# Altium integrated library ALTIUM-WE-TPC-rev17a.IntLib: 258 symbols (part 1 of 3)
Pins are listed as number, name and electrical type; pins without a type are passive.

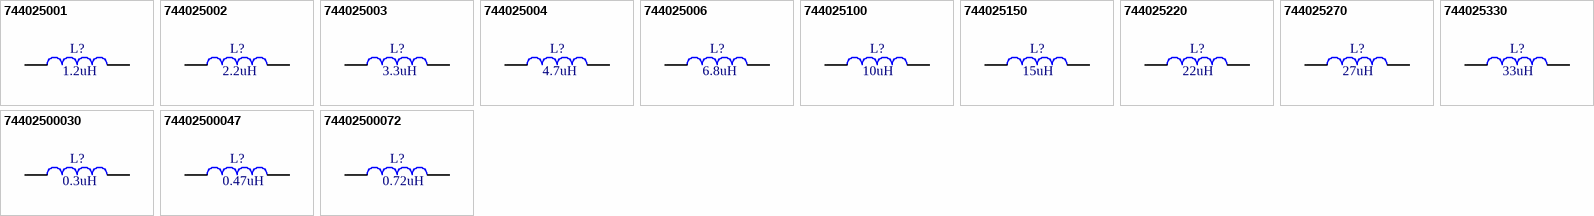
[diagram p0: symbols 744025001 to 74402500072]

## 744025001
designator L?  value 1.2uH
WE-TPC SMD Shielded Tiny Power Inductor, size 2828, 2.6A, 36mΩ, 1.2uH; Part Number: 744025001; ComponentLink1Description: Manufacturer; ComponentLink1URL: http://www.we-online.de; ComponentLink2Description: Datasheet; ComponentLink2URL: http://katalog.we-online.de/pbs/datasheet/744025001.pdf; Published Date: July 2017; Publisher: Wurth Elektronik; Rated Current: 2.6A; Size: 2828; DC Resistance: 36mΩ
footprint WE-TPC_2828
pins: 1, 2

## 744025002
designator L?  value 2.2uH
WE-TPC SMD Shielded Tiny Power Inductor, size 2828, 1.8A, 57mΩ, 2.2uH; Part Number: 744025002; ComponentLink1Description: Manufacturer; ComponentLink1URL: http://www.we-online.de; ComponentLink2Description: Datasheet; ComponentLink2URL: http://katalog.we-online.de/pbs/datasheet/744025002.pdf; Published Date: July 2017; Publisher: Wurth Elektronik; Rated Current: 1.8A; Size: 2828; DC Resistance: 57mΩ
footprint WE-TPC_2828
pins: 1, 2

## 744025003
designator L?  value 3.3uH
WE-TPC SMD Shielded Tiny Power Inductor, size 2828, 1.5A, 85mΩ, 3.3uH; Part Number: 744025003; ComponentLink1Description: Manufacturer; ComponentLink1URL: http://www.we-online.de; ComponentLink2Description: Datasheet; ComponentLink2URL: http://katalog.we-online.de/pbs/datasheet/744025003.pdf; Published Date: July 2017; Publisher: Wurth Elektronik; Rated Current: 1.5A; Size: 2828; DC Resistance: 85mΩ
footprint WE-TPC_2828
pins: 1, 2

## 744025004
designator L?  value 4.7uH
WE-TPC SMD Shielded Tiny Power Inductor, size 2828, 1.35A, 100mΩ, 4.7uH; Part Number: 744025004; ComponentLink1Description: Manufacturer; ComponentLink1URL: http://www.we-online.de; ComponentLink2Description: Datasheet; ComponentLink2URL: http://katalog.we-online.de/pbs/datasheet/744025004.pdf; Published Date: July 2017; Publisher: Wurth Elektronik; Rated Current: 1.35A; Size: 2828; DC Resistance: 100mΩ
footprint WE-TPC_2828
pins: 1, 2

## 744025006
designator L?  value 6.8uH
WE-TPC SMD Shielded Tiny Power Inductor, size 2828, 1.1A, 142mΩ, 6.8uH; Part Number: 744025006; ComponentLink1Description: Manufacturer; ComponentLink1URL: http://www.we-online.de; ComponentLink2Description: Datasheet; ComponentLink2URL: http://katalog.we-online.de/pbs/datasheet/744025006.pdf; Published Date: July 2017; Publisher: Wurth Elektronik; Rated Current: 1.1A; Size: 2828; DC Resistance: 142mΩ
footprint WE-TPC_2828
pins: 1, 2

## 744025100
designator L?  value 10uH
WE-TPC SMD Shielded Tiny Power Inductor, size 2828, 1A, 170mΩ, 10uH; Part Number: 744025100; ComponentLink1Description: Manufacturer; ComponentLink1URL: http://www.we-online.de; ComponentLink2Description: Datasheet; ComponentLink2URL: http://katalog.we-online.de/pbs/datasheet/744025100.pdf; Published Date: July 2017; Publisher: Wurth Elektronik; Rated Current: 1A; Size: 2828; DC Resistance: 170mΩ
footprint WE-TPC_2828
pins: 1, 2

## 744025150
designator L?  value 15uH
WE-TPC SMD Shielded Tiny Power Inductor, size 2828, 0.72A, 356mΩ, 15uH; Part Number: 744025150; ComponentLink1Description: Manufacturer; ComponentLink1URL: http://www.we-online.de; ComponentLink2Description: Datasheet; ComponentLink2URL: http://katalog.we-online.de/pbs/datasheet/744025150.pdf; Published Date: July 2017; Publisher: Wurth Elektronik; Rated Current: 0.72A; Size: 2828; DC Resistance: 356mΩ
footprint WE-TPC_2828
pins: 1, 2

## 744025220
designator L?  value 22uH
WE-TPC SMD Shielded Tiny Power Inductor, size 2828, 0.5A, 525mΩ, 22uH; Part Number: 744025220; ComponentLink1Description: Manufacturer; ComponentLink1URL: http://www.we-online.de; ComponentLink2Description: Datasheet; ComponentLink2URL: http://katalog.we-online.de/pbs/datasheet/744025220.pdf; Published Date: July 2017; Publisher: Wurth Elektronik; Rated Current: 0.5A; Size: 2828; DC Resistance: 525mΩ
footprint WE-TPC_2828
pins: 1, 2

## 744025270
designator L?  value 27uH
WE-TPC SMD Shielded Tiny Power Inductor, size 2828, 0.45A, 745mΩ, 27uH; Part Number: 744025270; ComponentLink1Description: Manufacturer; ComponentLink1URL: http://www.we-online.de; ComponentLink2Description: Datasheet; ComponentLink2URL: http://katalog.we-online.de/pbs/datasheet/744025270.pdf; Published Date: July 2017; Publisher: Wurth Elektronik; Rated Current: 0.45A; Size: 2828; DC Resistance: 745mΩ
footprint WE-TPC_2828
pins: 1, 2

## 744025330
designator L?  value 33uH
WE-TPC SMD Shielded Tiny Power Inductor, size 2828, 0.4A, 840mΩ, 33uH; Part Number: 744025330; ComponentLink1Description: Manufacturer; ComponentLink1URL: http://www.we-online.de; ComponentLink2Description: Datasheet; ComponentLink2URL: http://katalog.we-online.de/pbs/datasheet/744025330.pdf; Published Date: July 2017; Publisher: Wurth Elektronik; Rated Current: 0.4A; Size: 2828; DC Resistance: 840mΩ
footprint WE-TPC_2828
pins: 1, 2

## 74402500030
designator L?  value 0.3uH
WE-TPC SMD Shielded Tiny Power Inductor, size 2828, 3.9A, 15mΩ, 0.3uH; Part Number: 74402500030; ComponentLink1Description: Manufacturer; ComponentLink1URL: http://www.we-online.de; ComponentLink2Description: Datasheet; ComponentLink2URL: http://katalog.we-online.de/pbs/datasheet/74402500030.pdf; Published Date: July 2017; Publisher: Wurth Elektronik; Rated Current: 3.9A; Size: 2828; DC Resistance: 15mΩ
footprint WE-TPC_2828
pins: 1, 2

## 74402500047
designator L?  value 0.47uH
WE-TPC SMD Shielded Tiny Power Inductor, size 2828, 3.3A, 19mΩ, 0.47uH; Part Number: 74402500047; ComponentLink1Description: Manufacturer; ComponentLink1URL: http://www.we-online.de; ComponentLink2Description: Datasheet; ComponentLink2URL: http://katalog.we-online.de/pbs/datasheet/74402500047.pdf; Published Date: July 2017; Publisher: Wurth Elektronik; Rated Current: 3.3A; Size: 2828; DC Resistance: 19mΩ
footprint WE-TPC_2828
pins: 1, 2

## 74402500072
designator L?  value 0.72uH
WE-TPC SMD Shielded Tiny Power Inductor, size 2828, 3A, 23.5mΩ, 0.72uH; Part Number: 74402500072; ComponentLink1Description: Manufacturer; ComponentLink1URL: http://www.we-online.de; ComponentLink2Description: Datasheet; ComponentLink2URL: http://katalog.we-online.de/pbs/datasheet/74402500072.pdf; Published Date: July 2017; Publisher: Wurth Elektronik; Rated Current: 3A; Size: 2828; DC Resistance: 23.5mΩ
footprint WE-TPC_2828
pins: 1, 2


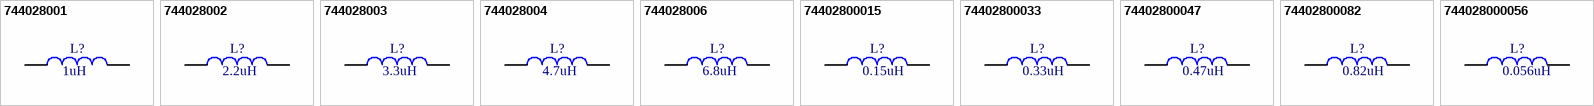
[diagram p1: symbols 744028001 to 744028000056]

## 744028001
designator L?  value 1uH
WE-TPC SMD Shielded Tiny Power Inductor, size 2811, 1.75A, 65mΩ, 1uH; Part Number: 744028001; ComponentLink1Description: Manufacturer; ComponentLink1URL: http://www.we-online.de; ComponentLink2Description: Datasheet; ComponentLink2URL: http://katalog.we-online.de/pbs/datasheet/744028001.pdf; Published Date: July 2017; Publisher: Wurth Elektronik; Rated Current: 1.75A; Size: 2811; DC Resistance: 65mΩ
footprint WE-TPC_2811
pins: 1, 2

## 744028002
designator L?  value 2.2uH
WE-TPC SMD Shielded Tiny Power Inductor, size 2811, 1.3A, 125mΩ, 2.2uH; Part Number: 744028002; ComponentLink1Description: Manufacturer; ComponentLink1URL: http://www.we-online.de; ComponentLink2Description: Datasheet; ComponentLink2URL: http://katalog.we-online.de/pbs/datasheet/744028002.pdf; Published Date: July 2017; Publisher: Wurth Elektronik; Rated Current: 1.3A; Size: 2811; DC Resistance: 125mΩ
footprint WE-TPC_2811
pins: 1, 2

## 744028003
designator L?  value 3.3uH
WE-TPC SMD Shielded Tiny Power Inductor, size 2811, 1A, 185mΩ, 3.3uH; Part Number: 744028003; ComponentLink1Description: Manufacturer; ComponentLink1URL: http://www.we-online.de; ComponentLink2Description: Datasheet; ComponentLink2URL: http://katalog.we-online.de/pbs/datasheet/744028003.pdf; Published Date: July 2017; Publisher: Wurth Elektronik; Rated Current: 1A; Size: 2811; DC Resistance: 185mΩ
footprint WE-TPC_2811
pins: 1, 2

## 744028004
designator L?  value 4.7uH
WE-TPC SMD Shielded Tiny Power Inductor, size 2811, 0.85A, 265mΩ, 4.7uH; Part Number: 744028004; ComponentLink1Description: Manufacturer; ComponentLink1URL: http://www.we-online.de; ComponentLink2Description: Datasheet; ComponentLink2URL: http://katalog.we-online.de/pbs/datasheet/744028004.pdf; Published Date: July 2017; Publisher: Wurth Elektronik; Rated Current: 0.85A; Size: 2811; DC Resistance: 265mΩ
footprint WE-TPC_2811
pins: 1, 2

## 744028006
designator L?  value 6.8uH
WE-TPC SMD Shielded Tiny Power Inductor, size 2811, 0.75A, 325mΩ, 6.8uH; Part Number: 744028006; ComponentLink1Description: Manufacturer; ComponentLink1URL: http://www.we-online.de; ComponentLink2Description: Datasheet; ComponentLink2URL: http://katalog.we-online.de/pbs/datasheet/744028006.pdf; Published Date: July 2017; Publisher: Wurth Elektronik; Rated Current: 0.75A; Size: 2811; DC Resistance: 325mΩ
footprint WE-TPC_2811
pins: 1, 2

## 74402800015
designator L?  value 0.15uH
WE-TPC SMD Shielded Tiny Power Inductor, size 2811, 3A, 18mΩ, 0.15uH; Part Number: 74402800015; ComponentLink1Description: Manufacturer; ComponentLink1URL: http://www.we-online.de; ComponentLink2Description: Datasheet; ComponentLink2URL: http://katalog.we-online.de/pbs/datasheet/74402800015.pdf; Published Date: July 2017; Publisher: Wurth Elektronik; Rated Current: 3A; Size: 2811; DC Resistance: 18mΩ
footprint WE-TPC_2811
pins: 1, 2

## 74402800033
designator L?  value 0.33uH
WE-TPC SMD Shielded Tiny Power Inductor, size 2811, 2.8A, 27mΩ, 0.33uH; Part Number: 74402800033; ComponentLink1Description: Manufacturer; ComponentLink1URL: http://www.we-online.de; ComponentLink2Description: Datasheet; ComponentLink2URL: http://katalog.we-online.de/pbs/datasheet/74402800033.pdf; Published Date: July 2017; Publisher: Wurth Elektronik; Rated Current: 2.8A; Size: 2811; DC Resistance: 27mΩ
footprint WE-TPC_2811
pins: 1, 2

## 74402800047
designator L?  value 0.47uH
WE-TPC SMD Shielded Tiny Power Inductor, size 2811, 2.5A, 36mΩ, 0.47uH; Part Number: 74402800047; ComponentLink1Description: Manufacturer; ComponentLink1URL: http://www.we-online.de; ComponentLink2Description: Datasheet; ComponentLink2URL: http://katalog.we-online.de/pbs/datasheet/74402800047.pdf; Published Date: July 2017; Publisher: Wurth Elektronik; Rated Current: 2.5A; Size: 2811; DC Resistance: 36mΩ
footprint WE-TPC_2811
pins: 1, 2

## 74402800082
designator L?  value 0.82uH
WE-TPC SMD Shielded Tiny Power Inductor, size 2811, 2A, 53mΩ, 0.82uH; Part Number: 74402800082; ComponentLink1Description: Manufacturer; ComponentLink1URL: http://www.we-online.de; ComponentLink2Description: Datasheet; ComponentLink2URL: http://katalog.we-online.de/pbs/datasheet/74402800082.pdf; Published Date: July 2017; Publisher: Wurth Elektronik; Rated Current: 2A; Size: 2811; DC Resistance: 53mΩ
footprint WE-TPC_2811
pins: 1, 2

## 744028000056
designator L?  value 0.056uH
WE-TPC SMD Shielded Tiny Power Inductor, size 2811, 4.5A, 11.5mΩ, 0.056uH; Part Number: 744028000056; ComponentLink1Description: Manufacturer; ComponentLink1URL: http://www.we-online.de; ComponentLink2Description: Datasheet; ComponentLink2URL: http://katalog.we-online.de/pbs/datasheet/744028000056.pdf; Published Date: July 2017; Publisher: Wurth Elektronik; Rated Current: 4.5A; Size: 2811; DC Resistance: 11.5mΩ
footprint WE-TPC_2811
pins: 1, 2


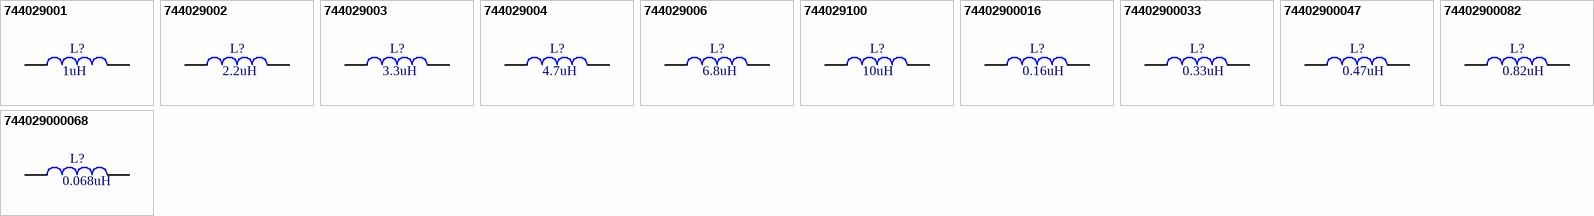
[diagram p2: symbols 744029001 to 744029000068]

## 744029001
designator L?  value 1uH
WE-TPC SMD Shielded Tiny Power Inductor, size 2813, 2.2A, 45mΩ, 1uH; Part Number: 744029001; ComponentLink1Description: Manufacturer; ComponentLink1URL: http://www.we-online.de; ComponentLink2Description: Datasheet; ComponentLink2URL: http://katalog.we-online.de/pbs/datasheet/744029001.pdf; Published Date: July 2017; Publisher: Wurth Elektronik; Rated Current: 2.2A; Size: 2813; DC Resistance: 45mΩ
footprint WE-TPC_2813
pins: 1, 2

## 744029002
designator L?  value 2.2uH
WE-TPC SMD Shielded Tiny Power Inductor, size 2813, 1.5A, 88mΩ, 2.2uH; Part Number: 744029002; ComponentLink1Description: Manufacturer; ComponentLink1URL: http://www.we-online.de; ComponentLink2Description: Datasheet; ComponentLink2URL: http://katalog.we-online.de/pbs/datasheet/744029002.pdf; Published Date: July 2017; Publisher: Wurth Elektronik; Rated Current: 1.5A; Size: 2813; DC Resistance: 88mΩ
footprint WE-TPC_2813
pins: 1, 2

## 744029003
designator L?  value 3.3uH
WE-TPC SMD Shielded Tiny Power Inductor, size 2813, 1.25A, 110mΩ, 3.3uH; Part Number: 744029003; ComponentLink1Description: Manufacturer; ComponentLink1URL: http://www.we-online.de; ComponentLink2Description: Datasheet; ComponentLink2URL: http://katalog.we-online.de/pbs/datasheet/744029003.pdf; Published Date: July 2017; Publisher: Wurth Elektronik; Rated Current: 1.25A; Size: 2813; DC Resistance: 110mΩ
footprint WE-TPC_2813
pins: 1, 2

## 744029004
designator L?  value 4.7uH
WE-TPC SMD Shielded Tiny Power Inductor, size 2813, 1A, 170mΩ, 4.7uH; Part Number: 744029004; ComponentLink1Description: Manufacturer; ComponentLink1URL: http://www.we-online.de; ComponentLink2Description: Datasheet; ComponentLink2URL: http://katalog.we-online.de/pbs/datasheet/744029004.pdf; Published Date: July 2017; Publisher: Wurth Elektronik; Rated Current: 1A; Size: 2813; DC Resistance: 170mΩ
footprint WE-TPC_2813
pins: 1, 2

## 744029006
designator L?  value 6.8uH
WE-TPC SMD Shielded Tiny Power Inductor, size 2813, 0.82A, 250mΩ, 6.8uH; Part Number: 744029006; ComponentLink1Description: Manufacturer; ComponentLink1URL: http://www.we-online.de; ComponentLink2Description: Datasheet; ComponentLink2URL: http://katalog.we-online.de/pbs/datasheet/744029006.pdf; Published Date: July 2017; Publisher: Wurth Elektronik; Rated Current: 0.82A; Size: 2813; DC Resistance: 250mΩ
footprint WE-TPC_2813
pins: 1, 2

## 744029100
designator L?  value 10uH
WE-TPC SMD Shielded Tiny Power Inductor, size 2813, 0.65A, 390mΩ, 10uH; Part Number: 744029100; ComponentLink1Description: Manufacturer; ComponentLink1URL: http://www.we-online.de; ComponentLink2Description: Datasheet; ComponentLink2URL: http://katalog.we-online.de/pbs/datasheet/744029100.pdf; Published Date: July 2017; Publisher: Wurth Elektronik; Rated Current: 0.65A; Size: 2813; DC Resistance: 390mΩ
footprint WE-TPC_2813
pins: 1, 2

## 74402900016
designator L?  value 0.16uH
WE-TPC SMD Shielded Tiny Power Inductor, size 2813, 3.8A, 16mΩ, 0.16uH; Part Number: 74402900016; ComponentLink1Description: Manufacturer; ComponentLink1URL: http://www.we-online.de; ComponentLink2Description: Datasheet; ComponentLink2URL: http://katalog.we-online.de/pbs/datasheet/74402900016.pdf; Published Date: July 2017; Publisher: Wurth Elektronik; Rated Current: 3.8A; Size: 2813; DC Resistance: 16mΩ
footprint WE-TPC_2813
pins: 1, 2

## 74402900033
designator L?  value 0.33uH
WE-TPC SMD Shielded Tiny Power Inductor, size 2813, 3.1A, 23mΩ, 0.33uH; Part Number: 74402900033; ComponentLink1Description: Manufacturer; ComponentLink1URL: http://www.we-online.de; ComponentLink2Description: Datasheet; ComponentLink2URL: http://katalog.we-online.de/pbs/datasheet/74402900033.pdf; Published Date: July 2017; Publisher: Wurth Elektronik; Rated Current: 3.1A; Size: 2813; DC Resistance: 23mΩ
footprint WE-TPC_2813
pins: 1, 2

## 74402900047
designator L?  value 0.47uH
WE-TPC SMD Shielded Tiny Power Inductor, size 2813, 2.8A, 29mΩ, 0.47uH; Part Number: 74402900047; ComponentLink1Description: Manufacturer; ComponentLink1URL: http://www.we-online.de; ComponentLink2Description: Datasheet; ComponentLink2URL: http://katalog.we-online.de/pbs/datasheet/74402900047.pdf; Published Date: July 2017; Publisher: Wurth Elektronik; Rated Current: 2.8A; Size: 2813; DC Resistance: 29mΩ
footprint WE-TPC_2813
pins: 1, 2

## 74402900082
designator L?  value 0.82uH
WE-TPC SMD Shielded Tiny Power Inductor, size 2813, 2.4A, 36mΩ, 0.82uH; Part Number: 74402900082; ComponentLink1Description: Manufacturer; ComponentLink1URL: http://www.we-online.de; ComponentLink2Description: Datasheet; ComponentLink2URL: http://katalog.we-online.de/pbs/datasheet/74402900082.pdf; Published Date: July 2017; Publisher: Wurth Elektronik; Rated Current: 2.4A; Size: 2813; DC Resistance: 36mΩ
footprint WE-TPC_2813
pins: 1, 2

## 744029000068
designator L?  value 0.068uH
WE-TPC SMD Shielded Tiny Power Inductor, size 2813, 4.5A, 10.5mΩ, 0.068uH; Part Number: 744029000068; ComponentLink1Description: Manufacturer; ComponentLink1URL: http://www.we-online.de; ComponentLink2Description: Datasheet; ComponentLink2URL: http://katalog.we-online.de/pbs/datasheet/744029000068.pdf; Published Date: July 2017; Publisher: Wurth Elektronik; Rated Current: 4.5A; Size: 2813; DC Resistance: 10.5mΩ
footprint WE-TPC_2813
pins: 1, 2


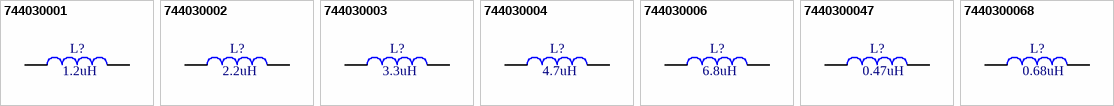
[diagram p3: symbols 744030001 to 7440300068]

## 744030001
designator L?  value 1.2uH
WE-TPC SMD Shielded Tiny Power Inductor, size 3510, 1A, 95mΩ, 1.2uH; Part Number: 744030001; ComponentLink1Description: Manufacturer; ComponentLink1URL: http://www.we-online.de; ComponentLink2Description: Datasheet; ComponentLink2URL: http://katalog.we-online.de/pbs/datasheet/744030001.pdf; Published Date: July 2017; Publisher: Wurth Elektronik; Rated Current: 1A; Size: 3510; DC Resistance: 95mΩ
footprint WE-TPC_3510
pins: 2, 4

## 744030002
designator L?  value 2.2uH
WE-TPC SMD Shielded Tiny Power Inductor, size 3510, 0.74A, 140mΩ, 2.2uH; Part Number: 744030002; ComponentLink1Description: Manufacturer; ComponentLink1URL: http://www.we-online.de; ComponentLink2Description: Datasheet; ComponentLink2URL: http://katalog.we-online.de/pbs/datasheet/744030002.pdf; Published Date: July 2017; Publisher: Wurth Elektronik; Rated Current: 0.74A; Size: 3510; DC Resistance: 140mΩ
footprint WE-TPC_3510
pins: 2, 4

## 744030003
designator L?  value 3.3uH
WE-TPC SMD Shielded Tiny Power Inductor, size 3510, 0.65A, 198mΩ, 3.3uH; Part Number: 744030003; ComponentLink1Description: Manufacturer; ComponentLink1URL: http://www.we-online.de; ComponentLink2Description: Datasheet; ComponentLink2URL: http://katalog.we-online.de/pbs/datasheet/744030003.pdf; Published Date: July 2017; Publisher: Wurth Elektronik; Rated Current: 0.65A; Size: 3510; DC Resistance: 198mΩ
footprint WE-TPC_3510
pins: 2, 4

## 744030004
designator L?  value 4.7uH
WE-TPC SMD Shielded Tiny Power Inductor, size 3510, 0.48A, 252mΩ, 4.7uH; Part Number: 744030004; ComponentLink1Description: Manufacturer; ComponentLink1URL: http://www.we-online.de; ComponentLink2Description: Datasheet; ComponentLink2URL: http://katalog.we-online.de/pbs/datasheet/744030004.pdf; Published Date: July 2017; Publisher: Wurth Elektronik; Rated Current: 0.48A; Size: 3510; DC Resistance: 252mΩ
footprint WE-TPC_3510
pins: 2, 4

## 744030006
designator L?  value 6.8uH
WE-TPC SMD Shielded Tiny Power Inductor, size 3510, 0.4A, 400mΩ, 6.8uH; Part Number: 744030006; ComponentLink1Description: Manufacturer; ComponentLink1URL: http://www.we-online.de; ComponentLink2Description: Datasheet; ComponentLink2URL: http://katalog.we-online.de/pbs/datasheet/744030006.pdf; Published Date: July 2017; Publisher: Wurth Elektronik; Rated Current: 0.4A; Size: 3510; DC Resistance: 400mΩ
footprint WE-TPC_3510
pins: 2, 4

## 7440300047
designator L?  value 0.47uH
WE-TPC SMD Shielded Tiny Power Inductor, size 3510, 1.45A, 48mΩ, 0.47uH; Part Number: 7440300047; ComponentLink1Description: Manufacturer; ComponentLink1URL: http://www.we-online.de; ComponentLink2Description: Datasheet; ComponentLink2URL: http://katalog.we-online.de/pbs/datasheet/7440300047.pdf; Published Date: July 2017; Publisher: Wurth Elektronik; Rated Current: 1.45A; Size: 3510; DC Resistance: 48mΩ
footprint WE-TPC_3510
pins: 2, 4

## 7440300068
designator L?  value 0.68uH
WE-TPC SMD Shielded Tiny Power Inductor, size 3510, 1.3A, 60mΩ, 0.68uH; Part Number: 7440300068; ComponentLink1Description: Manufacturer; ComponentLink1URL: http://www.we-online.de; ComponentLink2Description: Datasheet; ComponentLink2URL: http://katalog.we-online.de/pbs/datasheet/7440300068.pdf; Published Date: July 2017; Publisher: Wurth Elektronik; Rated Current: 1.3A; Size: 3510; DC Resistance: 60mΩ
footprint WE-TPC_3510
pins: 2, 4


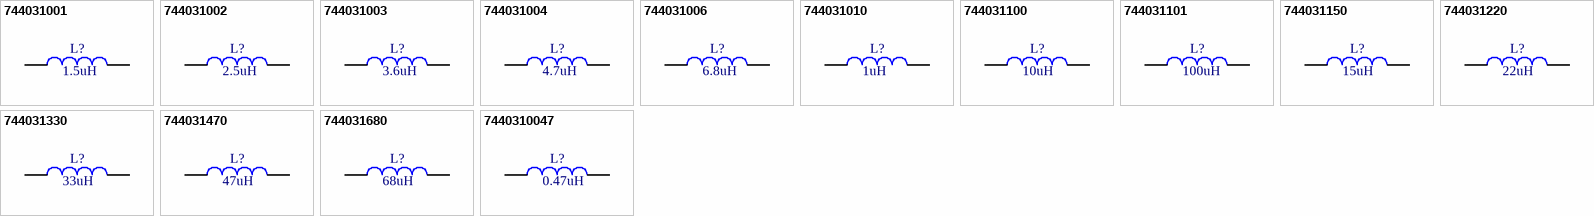
[diagram p4: symbols 744031001 to 7440310047]

## 744031001
designator L?  value 1.5uH
WE-TPC SMD Shielded Tiny Power Inductor, size 3816, 1.75A, 40mΩ, 1.5uH; Part Number: 744031001; ComponentLink1Description: Manufacturer; ComponentLink1URL: http://www.we-online.de; ComponentLink2Description: Datasheet; ComponentLink2URL: http://katalog.we-online.de/pbs/datasheet/744031001.pdf; Published Date: July 2017; Publisher: Wurth Elektronik; Rated Current: 1.75A; Size: 3816; DC Resistance: 40mΩ
footprint WE-TPC_3816
pins: 1, 2

## 744031002
designator L?  value 2.5uH
WE-TPC SMD Shielded Tiny Power Inductor, size 3816, 1.45A, 50mΩ, 2.5uH; Part Number: 744031002; ComponentLink1Description: Manufacturer; ComponentLink1URL: http://www.we-online.de; ComponentLink2Description: Datasheet; ComponentLink2URL: http://katalog.we-online.de/pbs/datasheet/744031002.pdf; Published Date: July 2017; Publisher: Wurth Elektronik; Rated Current: 1.45A; Size: 3816; DC Resistance: 50mΩ
footprint WE-TPC_3816
pins: 1, 2

## 744031003
designator L?  value 3.6uH
WE-TPC SMD Shielded Tiny Power Inductor, size 3816, 1.38A, 66mΩ, 3.6uH; Part Number: 744031003; ComponentLink1Description: Manufacturer; ComponentLink1URL: http://www.we-online.de; ComponentLink2Description: Datasheet; ComponentLink2URL: http://katalog.we-online.de/pbs/datasheet/744031003.pdf; Published Date: July 2017; Publisher: Wurth Elektronik; Rated Current: 1.38A; Size: 3816; DC Resistance: 66mΩ
footprint WE-TPC_3816
pins: 1, 2

## 744031004
designator L?  value 4.7uH
WE-TPC SMD Shielded Tiny Power Inductor, size 3816, 1.2A, 90mΩ, 4.7uH; Part Number: 744031004; ComponentLink1Description: Manufacturer; ComponentLink1URL: http://www.we-online.de; ComponentLink2Description: Datasheet; ComponentLink2URL: http://katalog.we-online.de/pbs/datasheet/744031004.pdf; Published Date: July 2017; Publisher: Wurth Elektronik; Rated Current: 1.2A; Size: 3816; DC Resistance: 90mΩ
footprint WE-TPC_3816
pins: 1, 2

## 744031006
designator L?  value 6.8uH
WE-TPC SMD Shielded Tiny Power Inductor, size 3816, 0.85A, 135mΩ, 6.8uH; Part Number: 744031006; ComponentLink1Description: Manufacturer; ComponentLink1URL: http://www.we-online.de; ComponentLink2Description: Datasheet; ComponentLink2URL: http://katalog.we-online.de/pbs/datasheet/744031006.pdf; Published Date: July 2017; Publisher: Wurth Elektronik; Rated Current: 0.85A; Size: 3816; DC Resistance: 135mΩ
footprint WE-TPC_3816
pins: 1, 2

## 744031010
designator L?  value 1uH
WE-TPC SMD Shielded Tiny Power Inductor, size 3816, 2A, 26mΩ, 1uH; Part Number: 744031010; ComponentLink1Description: Manufacturer; ComponentLink1URL: http://www.we-online.de; ComponentLink2Description: Datasheet; ComponentLink2URL: http://katalog.we-online.de/pbs/datasheet/744031010.pdf; Published Date: July 2017; Publisher: Wurth Elektronik; Rated Current: 2A; Size: 3816; DC Resistance: 26mΩ
footprint WE-TPC_3816
pins: 1, 2

## 744031100
designator L?  value 10uH
WE-TPC SMD Shielded Tiny Power Inductor, size 3816, 0.74A, 185mΩ, 10uH; Part Number: 744031100; ComponentLink1Description: Manufacturer; ComponentLink1URL: http://www.we-online.de; ComponentLink2Description: Datasheet; ComponentLink2URL: http://katalog.we-online.de/pbs/datasheet/744031100.pdf; Published Date: July 2017; Publisher: Wurth Elektronik; Rated Current: 0.74A; Size: 3816; DC Resistance: 185mΩ
footprint WE-TPC_3816
pins: 1, 2

## 744031101
designator L?  value 100uH
WE-TPC SMD Shielded Tiny Power Inductor, size 3816, 0.25A, 1930mΩ, 100uH; Part Number: 744031101; ComponentLink1Description: Manufacturer; ComponentLink1URL: http://www.we-online.de; ComponentLink2Description: Datasheet; ComponentLink2URL: http://katalog.we-online.de/pbs/datasheet/744031101.pdf; Published Date: July 2017; Publisher: Wurth Elektronik; Rated Current: 0.25A; Size: 3816; DC Resistance: 1930mΩ
footprint WE-TPC_3816
pins: 1, 2

## 744031150
designator L?  value 15uH
WE-TPC SMD Shielded Tiny Power Inductor, size 3816, 0.62A, 255mΩ, 15uH; Part Number: 744031150; ComponentLink1Description: Manufacturer; ComponentLink1URL: http://www.we-online.de; ComponentLink2Description: Datasheet; ComponentLink2URL: http://katalog.we-online.de/pbs/datasheet/744031150.pdf; Published Date: July 2017; Publisher: Wurth Elektronik; Rated Current: 0.62A; Size: 3816; DC Resistance: 255mΩ
footprint WE-TPC_3816
pins: 1, 2

## 744031220
designator L?  value 22uH
WE-TPC SMD Shielded Tiny Power Inductor, size 3816, 0.51A, 410mΩ, 22uH; Part Number: 744031220; ComponentLink1Description: Manufacturer; ComponentLink1URL: http://www.we-online.de; ComponentLink2Description: Datasheet; ComponentLink2URL: http://katalog.we-online.de/pbs/datasheet/744031220.pdf; Published Date: July 2017; Publisher: Wurth Elektronik; Rated Current: 0.51A; Size: 3816; DC Resistance: 410mΩ
footprint WE-TPC_3816
pins: 1, 2

## 744031330
designator L?  value 33uH
WE-TPC SMD Shielded Tiny Power Inductor, size 3816, 0.42A, 635mΩ, 33uH; Part Number: 744031330; ComponentLink1Description: Manufacturer; ComponentLink1URL: http://www.we-online.de; ComponentLink2Description: Datasheet; ComponentLink2URL: http://katalog.we-online.de/pbs/datasheet/744031330.pdf; Published Date: July 2017; Publisher: Wurth Elektronik; Rated Current: 0.42A; Size: 3816; DC Resistance: 635mΩ
footprint WE-TPC_3816
pins: 1, 2

## 744031470
designator L?  value 47uH
WE-TPC SMD Shielded Tiny Power Inductor, size 3816, 0.39A, 940mΩ, 47uH; Part Number: 744031470; ComponentLink1Description: Manufacturer; ComponentLink1URL: http://www.we-online.de; ComponentLink2Description: Datasheet; ComponentLink2URL: http://katalog.we-online.de/pbs/datasheet/744031470.pdf; Published Date: July 2017; Publisher: Wurth Elektronik; Rated Current: 0.39A; Size: 3816; DC Resistance: 940mΩ
footprint WE-TPC_3816
pins: 1, 2

## 744031680
designator L?  value 68uH
WE-TPC SMD Shielded Tiny Power Inductor, size 3816, 0.32A, 1150mΩ, 68uH; Part Number: 744031680; ComponentLink1Description: Manufacturer; ComponentLink1URL: http://www.we-online.de; ComponentLink2Description: Datasheet; ComponentLink2URL: http://katalog.we-online.de/pbs/datasheet/744031680.pdf; Published Date: July 2017; Publisher: Wurth Elektronik; Rated Current: 0.32A; Size: 3816; DC Resistance: 1150mΩ
footprint WE-TPC_3816
pins: 1, 2

## 7440310047
designator L?  value 0.47uH
WE-TPC SMD Shielded Tiny Power Inductor, size 3816, 3A, 16mΩ, 0.47uH; Part Number: 7440310047; ComponentLink1Description: Manufacturer; ComponentLink1URL: http://www.we-online.de; ComponentLink2Description: Datasheet; ComponentLink2URL: http://katalog.we-online.de/pbs/datasheet/7440310047.pdf; Published Date: July 2017; Publisher: Wurth Elektronik; Rated Current: 3A; Size: 3816; DC Resistance: 16mΩ
footprint WE-TPC_3816
pins: 1, 2


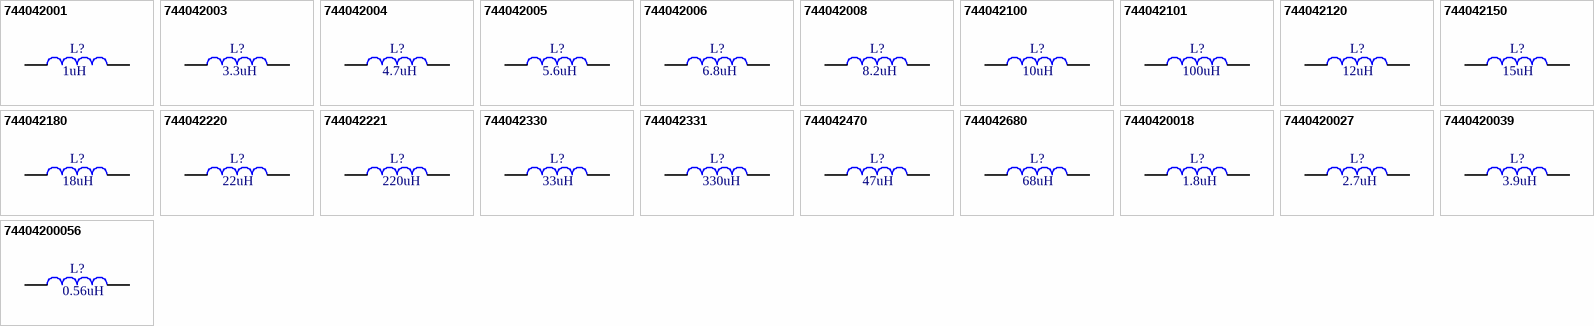
[diagram p5: symbols 744042001 to 74404200056]

## 744042001
designator L?  value 1uH
WE-TPC SMD Shielded Tiny Power Inductor, size 4818, 2.7A, 20mΩ, 1uH; Part Number: 744042001; ComponentLink1Description: Manufacturer; ComponentLink1URL: http://www.we-online.de; ComponentLink2Description: Datasheet; ComponentLink2URL: http://katalog.we-online.de/pbs/datasheet/744042001.pdf; Published Date: July 2017; Publisher: Wurth Elektronik; Rated Current: 2.7A; Size: 4818; DC Resistance: 20mΩ
footprint WE-TPC_4818
pins: 1, 2

## 744042003
designator L?  value 3.3uH
WE-TPC SMD Shielded Tiny Power Inductor, size 4818, 1.95A, 50mΩ, 3.3uH; Part Number: 744042003; ComponentLink1Description: Manufacturer; ComponentLink1URL: http://www.we-online.de; ComponentLink2Description: Datasheet; ComponentLink2URL: http://katalog.we-online.de/pbs/datasheet/744042003.pdf; Published Date: July 2017; Publisher: Wurth Elektronik; Rated Current: 1.95A; Size: 4818; DC Resistance: 50mΩ
footprint WE-TPC_4818
pins: 1, 2

## 744042004
designator L?  value 4.7uH
WE-TPC SMD Shielded Tiny Power Inductor, size 4818, 1.72A, 70mΩ, 4.7uH; Part Number: 744042004; ComponentLink1Description: Manufacturer; ComponentLink1URL: http://www.we-online.de; ComponentLink2Description: Datasheet; ComponentLink2URL: http://katalog.we-online.de/pbs/datasheet/744042004.pdf; Published Date: July 2017; Publisher: Wurth Elektronik; Rated Current: 1.72A; Size: 4818; DC Resistance: 70mΩ
footprint WE-TPC_4818
pins: 1, 2

## 744042005
designator L?  value 5.6uH
WE-TPC SMD Shielded Tiny Power Inductor, size 4818, 1.64A, 80mΩ, 5.6uH; Part Number: 744042005; ComponentLink1Description: Manufacturer; ComponentLink1URL: http://www.we-online.de; ComponentLink2Description: Datasheet; ComponentLink2URL: http://katalog.we-online.de/pbs/datasheet/744042005.pdf; Published Date: July 2017; Publisher: Wurth Elektronik; Rated Current: 1.64A; Size: 4818; DC Resistance: 80mΩ
footprint WE-TPC_4818
pins: 1, 2

## 744042006
designator L?  value 6.8uH
WE-TPC SMD Shielded Tiny Power Inductor, size 4818, 1.5A, 80mΩ, 6.8uH; Part Number: 744042006; ComponentLink1Description: Manufacturer; ComponentLink1URL: http://www.we-online.de; ComponentLink2Description: Datasheet; ComponentLink2URL: http://katalog.we-online.de/pbs/datasheet/744042006.pdf; Published Date: July 2017; Publisher: Wurth Elektronik; Rated Current: 1.5A; Size: 4818; DC Resistance: 80mΩ
footprint WE-TPC_4818
pins: 1, 2

## 744042008
designator L?  value 8.2uH
WE-TPC SMD Shielded Tiny Power Inductor, size 4818, 1.4A, 100mΩ, 8.2uH; Part Number: 744042008; ComponentLink1Description: Manufacturer; ComponentLink1URL: http://www.we-online.de; ComponentLink2Description: Datasheet; ComponentLink2URL: http://katalog.we-online.de/pbs/datasheet/744042008.pdf; Published Date: July 2017; Publisher: Wurth Elektronik; Rated Current: 1.4A; Size: 4818; DC Resistance: 100mΩ
footprint WE-TPC_4818
pins: 1, 2

## 744042100
designator L?  value 10uH
WE-TPC SMD Shielded Tiny Power Inductor, size 4818, 1.3A, 120mΩ, 10uH; Part Number: 744042100; ComponentLink1Description: Manufacturer; ComponentLink1URL: http://www.we-online.de; ComponentLink2Description: Datasheet; ComponentLink2URL: http://katalog.we-online.de/pbs/datasheet/744042100.pdf; Published Date: July 2017; Publisher: Wurth Elektronik; Rated Current: 1.3A; Size: 4818; DC Resistance: 120mΩ
footprint WE-TPC_4818
pins: 1, 2

## 744042101
designator L?  value 100uH
WE-TPC SMD Shielded Tiny Power Inductor, size 4818, 0.4A, 1170mΩ, 100uH; Part Number: 744042101; ComponentLink1Description: Manufacturer; ComponentLink1URL: http://www.we-online.de; ComponentLink2Description: Datasheet; ComponentLink2URL: http://katalog.we-online.de/pbs/datasheet/744042101.pdf; Published Date: July 2017; Publisher: Wurth Elektronik; Rated Current: 0.4A; Size: 4818; DC Resistance: 1170mΩ
footprint WE-TPC_4818
pins: 1, 2

## 744042120
designator L?  value 12uH
WE-TPC SMD Shielded Tiny Power Inductor, size 4818, 1.15A, 150mΩ, 12uH; Part Number: 744042120; ComponentLink1Description: Manufacturer; ComponentLink1URL: http://www.we-online.de; ComponentLink2Description: Datasheet; ComponentLink2URL: http://katalog.we-online.de/pbs/datasheet/744042120.pdf; Published Date: July 2017; Publisher: Wurth Elektronik; Rated Current: 1.15A; Size: 4818; DC Resistance: 150mΩ
footprint WE-TPC_4818
pins: 1, 2

## 744042150
designator L?  value 15uH
WE-TPC SMD Shielded Tiny Power Inductor, size 4818, 1.03A, 190mΩ, 15uH; Part Number: 744042150; ComponentLink1Description: Manufacturer; ComponentLink1URL: http://www.we-online.de; ComponentLink2Description: Datasheet; ComponentLink2URL: http://katalog.we-online.de/pbs/datasheet/744042150.pdf; Published Date: July 2017; Publisher: Wurth Elektronik; Rated Current: 1.03A; Size: 4818; DC Resistance: 190mΩ
footprint WE-TPC_4818
pins: 1, 2

## 744042180
designator L?  value 18uH
WE-TPC SMD Shielded Tiny Power Inductor, size 4818, 0.92A, 270mΩ, 18uH; Part Number: 744042180; ComponentLink1Description: Manufacturer; ComponentLink1URL: http://www.we-online.de; ComponentLink2Description: Datasheet; ComponentLink2URL: http://katalog.we-online.de/pbs/datasheet/744042180.pdf; Published Date: July 2017; Publisher: Wurth Elektronik; Rated Current: 0.92A; Size: 4818; DC Resistance: 270mΩ
footprint WE-TPC_4818
pins: 1, 2

## 744042220
designator L?  value 22uH
WE-TPC SMD Shielded Tiny Power Inductor, size 4818, 0.88A, 280mΩ, 22uH; Part Number: 744042220; ComponentLink1Description: Manufacturer; ComponentLink1URL: http://www.we-online.de; ComponentLink2Description: Datasheet; ComponentLink2URL: http://katalog.we-online.de/pbs/datasheet/744042220.pdf; Published Date: July 2017; Publisher: Wurth Elektronik; Rated Current: 0.88A; Size: 4818; DC Resistance: 280mΩ
footprint WE-TPC_4818
pins: 1, 2

## 744042221
designator L?  value 220uH
WE-TPC SMD Shielded Tiny Power Inductor, size 4818, 0.2A, 2880mΩ, 220uH; Part Number: 744042221; ComponentLink1Description: Manufacturer; ComponentLink1URL: http://www.we-online.de; ComponentLink2Description: Datasheet; ComponentLink2URL: http://katalog.we-online.de/pbs/datasheet/744042221.pdf; Published Date: July 2017; Publisher: Wurth Elektronik; Rated Current: 0.2A; Size: 4818; DC Resistance: 2880mΩ
footprint WE-TPC_4818
pins: 1, 2

## 744042330
designator L?  value 33uH
WE-TPC SMD Shielded Tiny Power Inductor, size 4818, 0.72A, 382mΩ, 33uH; Part Number: 744042330; ComponentLink1Description: Manufacturer; ComponentLink1URL: http://www.we-online.de; ComponentLink2Description: Datasheet; ComponentLink2URL: http://katalog.we-online.de/pbs/datasheet/744042330.pdf; Published Date: July 2017; Publisher: Wurth Elektronik; Rated Current: 0.72A; Size: 4818; DC Resistance: 382mΩ
footprint WE-TPC_4818
pins: 1, 2

## 744042331
designator L?  value 330uH
WE-TPC SMD Shielded Tiny Power Inductor, size 4818, 0.15A, 4100mΩ, 330uH; Part Number: 744042331; ComponentLink1Description: Manufacturer; ComponentLink1URL: http://www.we-online.de; ComponentLink2Description: Datasheet; ComponentLink2URL: http://katalog.we-online.de/pbs/datasheet/744042331.pdf; Published Date: July 2017; Publisher: Wurth Elektronik; Rated Current: 0.15A; Size: 4818; DC Resistance: 4100mΩ
footprint WE-TPC_4818
pins: 1, 2

## 744042470
designator L?  value 47uH
WE-TPC SMD Shielded Tiny Power Inductor, size 4818, 0.62A, 540mΩ, 47uH; Part Number: 744042470; ComponentLink1Description: Manufacturer; ComponentLink1URL: http://www.we-online.de; ComponentLink2Description: Datasheet; ComponentLink2URL: http://katalog.we-online.de/pbs/datasheet/744042470.pdf; Published Date: July 2017; Publisher: Wurth Elektronik; Rated Current: 0.62A; Size: 4818; DC Resistance: 540mΩ
footprint WE-TPC_4818
pins: 1, 2

## 744042680
designator L?  value 68uH
WE-TPC SMD Shielded Tiny Power Inductor, size 4818, 0.5A, 715mΩ, 68uH; Part Number: 744042680; ComponentLink1Description: Manufacturer; ComponentLink1URL: http://www.we-online.de; ComponentLink2Description: Datasheet; ComponentLink2URL: http://katalog.we-online.de/pbs/datasheet/744042680.pdf; Published Date: July 2017; Publisher: Wurth Elektronik; Rated Current: 0.5A; Size: 4818; DC Resistance: 715mΩ
footprint WE-TPC_4818
pins: 1, 2

## 7440420018
designator L?  value 1.8uH
WE-TPC SMD Shielded Tiny Power Inductor, size 4818, 2.35A, 40mΩ, 1.8uH; Part Number: 7440420018; ComponentLink1Description: Manufacturer; ComponentLink1URL: http://www.we-online.de; ComponentLink2Description: Datasheet; ComponentLink2URL: http://katalog.we-online.de/pbs/datasheet/7440420018.pdf; Published Date: July 2017; Publisher: Wurth Elektronik; Rated Current: 2.35A; Size: 4818; DC Resistance: 40mΩ
footprint WE-TPC_4818
pins: 1, 2

## 7440420027
designator L?  value 2.7uH
WE-TPC SMD Shielded Tiny Power Inductor, size 4818, 2.03A, 47mΩ, 2.7uH; Part Number: 7440420027; ComponentLink1Description: Manufacturer; ComponentLink1URL: http://www.we-online.de; ComponentLink2Description: Datasheet; ComponentLink2URL: http://katalog.we-online.de/pbs/datasheet/7440420027.pdf; Published Date: July 2017; Publisher: Wurth Elektronik; Rated Current: 2.03A; Size: 4818; DC Resistance: 47mΩ
footprint WE-TPC_4818
pins: 1, 2

## 7440420039
designator L?  value 3.9uH
WE-TPC SMD Shielded Tiny Power Inductor, size 4818, 1.82A, 60mΩ, 3.9uH; Part Number: 7440420039; ComponentLink1Description: Manufacturer; ComponentLink1URL: http://www.we-online.de; ComponentLink2Description: Datasheet; ComponentLink2URL: http://katalog.we-online.de/pbs/datasheet/7440420039.pdf; Published Date: July 2017; Publisher: Wurth Elektronik; Rated Current: 1.82A; Size: 4818; DC Resistance: 60mΩ
footprint WE-TPC_4818
pins: 1, 2

## 74404200056
designator L?  value 0.56uH
WE-TPC SMD Shielded Tiny Power Inductor, size 4818, 3.1A, 19mΩ, 0.56uH; Part Number: 74404200056; ComponentLink1Description: Manufacturer; ComponentLink1URL: http://www.we-online.de; ComponentLink2Description: Datasheet; ComponentLink2URL: http://katalog.we-online.de/pbs/datasheet/74404200056.pdf; Published Date: July 2017; Publisher: Wurth Elektronik; Rated Current: 3.1A; Size: 4818; DC Resistance: 19mΩ
footprint WE-TPC_4818
pins: 1, 2


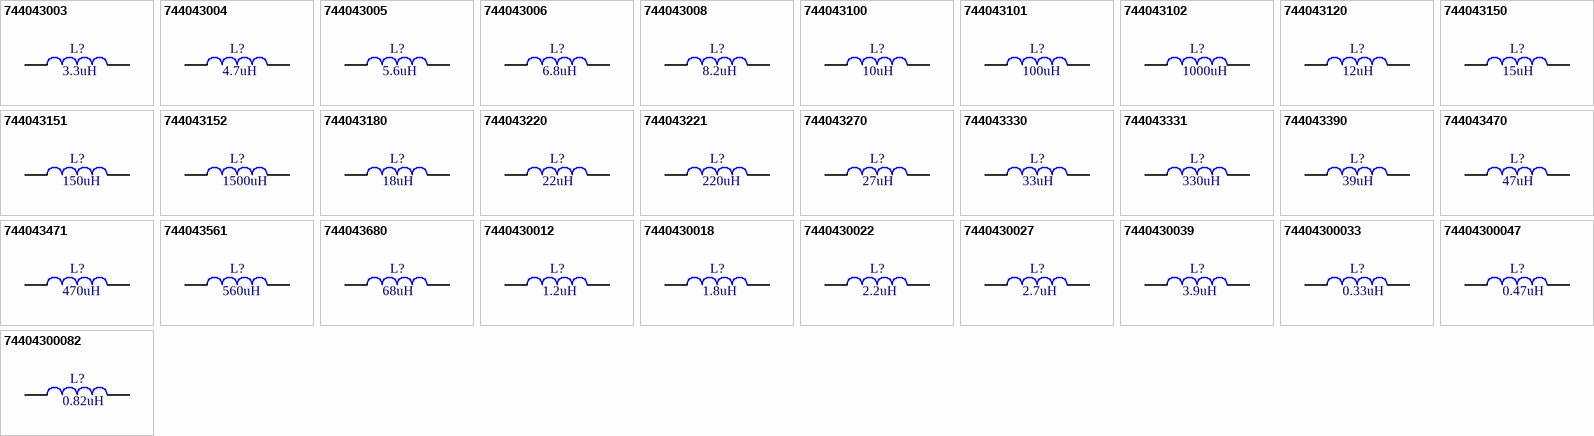
[diagram p6: symbols 744043003 to 74404300082]

## 744043003
designator L?  value 3.3uH
WE-TPC SMD Shielded Tiny Power Inductor, size 4828, 2.15A, 30mΩ, 3.3uH; Part Number: 744043003; ComponentLink1Description: Manufacturer; ComponentLink1URL: http://www.we-online.de; ComponentLink2Description: Datasheet; ComponentLink2URL: http://katalog.we-online.de/pbs/datasheet/744043003.pdf; Published Date: July 2017; Publisher: Wurth Elektronik; Rated Current: 2.15A; Size: 4828; DC Resistance: 30mΩ
footprint WE-TPC_4828
pins: 1, 2

## 744043004
designator L?  value 4.7uH
WE-TPC SMD Shielded Tiny Power Inductor, size 4828, 1.55A, 50mΩ, 4.7uH; Part Number: 744043004; ComponentLink1Description: Manufacturer; ComponentLink1URL: http://www.we-online.de; ComponentLink2Description: Datasheet; ComponentLink2URL: http://katalog.we-online.de/pbs/datasheet/744043004.pdf; Published Date: July 2017; Publisher: Wurth Elektronik; Rated Current: 1.55A; Size: 4828; DC Resistance: 50mΩ
footprint WE-TPC_4828
pins: 1, 2

## 744043005
designator L?  value 5.6uH
WE-TPC SMD Shielded Tiny Power Inductor, size 4828, 1.38A, 70mΩ, 5.6uH; Part Number: 744043005; ComponentLink1Description: Manufacturer; ComponentLink1URL: http://www.we-online.de; ComponentLink2Description: Datasheet; ComponentLink2URL: http://katalog.we-online.de/pbs/datasheet/744043005.pdf; Published Date: July 2017; Publisher: Wurth Elektronik; Rated Current: 1.38A; Size: 4828; DC Resistance: 70mΩ
footprint WE-TPC_4828
pins: 1, 2

## 744043006
designator L?  value 6.8uH
WE-TPC SMD Shielded Tiny Power Inductor, size 4828, 1.3A, 80mΩ, 6.8uH; Part Number: 744043006; ComponentLink1Description: Manufacturer; ComponentLink1URL: http://www.we-online.de; ComponentLink2Description: Datasheet; ComponentLink2URL: http://katalog.we-online.de/pbs/datasheet/744043006.pdf; Published Date: July 2017; Publisher: Wurth Elektronik; Rated Current: 1.3A; Size: 4828; DC Resistance: 80mΩ
footprint WE-TPC_4828
pins: 1, 2

## 744043008
designator L?  value 8.2uH
WE-TPC SMD Shielded Tiny Power Inductor, size 4828, 1.3A, 80mΩ, 8.2uH; Part Number: 744043008; ComponentLink1Description: Manufacturer; ComponentLink1URL: http://www.we-online.de; ComponentLink2Description: Datasheet; ComponentLink2URL: http://katalog.we-online.de/pbs/datasheet/744043008.pdf; Published Date: July 2017; Publisher: Wurth Elektronik; Rated Current: 1.3A; Size: 4828; DC Resistance: 80mΩ
footprint WE-TPC_4828
pins: 1, 2

## 744043100
designator L?  value 10uH
WE-TPC SMD Shielded Tiny Power Inductor, size 4828, 1.19A, 95mΩ, 10uH; Part Number: 744043100; ComponentLink1Description: Manufacturer; ComponentLink1URL: http://www.we-online.de; ComponentLink2Description: Datasheet; ComponentLink2URL: http://katalog.we-online.de/pbs/datasheet/744043100.pdf; Published Date: July 2017; Publisher: Wurth Elektronik; Rated Current: 1.19A; Size: 4828; DC Resistance: 95mΩ
footprint WE-TPC_4828
pins: 1, 2

## 744043101
designator L?  value 100uH
WE-TPC SMD Shielded Tiny Power Inductor, size 4828, 0.51A, 550mΩ, 100uH; Part Number: 744043101; ComponentLink1Description: Manufacturer; ComponentLink1URL: http://www.we-online.de; ComponentLink2Description: Datasheet; ComponentLink2URL: http://katalog.we-online.de/pbs/datasheet/744043101.pdf; Published Date: July 2017; Publisher: Wurth Elektronik; Rated Current: 0.51A; Size: 4828; DC Resistance: 550mΩ
footprint WE-TPC_4828
pins: 1, 2

## 744043102
designator L?  value 1000uH
WE-TPC SMD Shielded Tiny Power Inductor, size 4828, 0.14A, 5400mΩ, 1000uH; Part Number: 744043102; ComponentLink1Description: Manufacturer; ComponentLink1URL: http://www.we-online.de; ComponentLink2Description: Datasheet; ComponentLink2URL: http://katalog.we-online.de/pbs/datasheet/744043102.pdf; Published Date: July 2017; Publisher: Wurth Elektronik; Rated Current: 0.14A; Size: 4828; DC Resistance: 5400mΩ
footprint WE-TPC_4828
pins: 1, 2

## 744043120
designator L?  value 12uH
WE-TPC SMD Shielded Tiny Power Inductor, size 4828, 1.12A, 100mΩ, 12uH; Part Number: 744043120; ComponentLink1Description: Manufacturer; ComponentLink1URL: http://www.we-online.de; ComponentLink2Description: Datasheet; ComponentLink2URL: http://katalog.we-online.de/pbs/datasheet/744043120.pdf; Published Date: July 2017; Publisher: Wurth Elektronik; Rated Current: 1.12A; Size: 4828; DC Resistance: 100mΩ
footprint WE-TPC_4828
pins: 1, 2

## 744043150
designator L?  value 15uH
WE-TPC SMD Shielded Tiny Power Inductor, size 4828, 1.03A, 120mΩ, 15uH; Part Number: 744043150; ComponentLink1Description: Manufacturer; ComponentLink1URL: http://www.we-online.de; ComponentLink2Description: Datasheet; ComponentLink2URL: http://katalog.we-online.de/pbs/datasheet/744043150.pdf; Published Date: July 2017; Publisher: Wurth Elektronik; Rated Current: 1.03A; Size: 4828; DC Resistance: 120mΩ
footprint WE-TPC_4828
pins: 1, 2

## 744043151
designator L?  value 150uH
WE-TPC SMD Shielded Tiny Power Inductor, size 4828, 0.42A, 770mΩ, 150uH; Part Number: 744043151; ComponentLink1Description: Manufacturer; ComponentLink1URL: http://www.we-online.de; ComponentLink2Description: Datasheet; ComponentLink2URL: http://katalog.we-online.de/pbs/datasheet/744043151.pdf; Published Date: July 2017; Publisher: Wurth Elektronik; Rated Current: 0.42A; Size: 4828; DC Resistance: 770mΩ
footprint WE-TPC_4828
pins: 1, 2

## 744043152
designator L?  value 1500uH
WE-TPC SMD Shielded Tiny Power Inductor, size 4828, 0.09A, 6800mΩ, 1500uH; Part Number: 744043152; ComponentLink1Description: Manufacturer; ComponentLink1URL: http://www.we-online.de; ComponentLink2Description: Datasheet; ComponentLink2URL: http://katalog.we-online.de/pbs/datasheet/744043152.pdf; Published Date: July 2017; Publisher: Wurth Elektronik; Rated Current: 0.09A; Size: 4828; DC Resistance: 6800mΩ
footprint WE-TPC_4828
pins: 1, 2

## 744043180
designator L?  value 18uH
WE-TPC SMD Shielded Tiny Power Inductor, size 4828, 0.98A, 150mΩ, 18uH; Part Number: 744043180; ComponentLink1Description: Manufacturer; ComponentLink1URL: http://www.we-online.de; ComponentLink2Description: Datasheet; ComponentLink2URL: http://katalog.we-online.de/pbs/datasheet/744043180.pdf; Published Date: July 2017; Publisher: Wurth Elektronik; Rated Current: 0.98A; Size: 4828; DC Resistance: 150mΩ
footprint WE-TPC_4828
pins: 1, 2

## 744043220
designator L?  value 22uH
WE-TPC SMD Shielded Tiny Power Inductor, size 4828, 0.925A, 160mΩ, 22uH; Part Number: 744043220; ComponentLink1Description: Manufacturer; ComponentLink1URL: http://www.we-online.de; ComponentLink2Description: Datasheet; ComponentLink2URL: http://katalog.we-online.de/pbs/datasheet/744043220.pdf; Published Date: July 2017; Publisher: Wurth Elektronik; Rated Current: 0.925A; Size: 4828; DC Resistance: 160mΩ
footprint WE-TPC_4828
pins: 1, 2

## 744043221
designator L?  value 220uH
WE-TPC SMD Shielded Tiny Power Inductor, size 4828, 0.34A, 1008mΩ, 220uH; Part Number: 744043221; ComponentLink1Description: Manufacturer; ComponentLink1URL: http://www.we-online.de; ComponentLink2Description: Datasheet; ComponentLink2URL: http://katalog.we-online.de/pbs/datasheet/744043221.pdf; Published Date: July 2017; Publisher: Wurth Elektronik; Rated Current: 0.34A; Size: 4828; DC Resistance: 1008mΩ
footprint WE-TPC_4828
pins: 1, 2

## 744043270
designator L?  value 27uH
WE-TPC SMD Shielded Tiny Power Inductor, size 4828, 0.89A, 170mΩ, 27uH; Part Number: 744043270; ComponentLink1Description: Manufacturer; ComponentLink1URL: http://www.we-online.de; ComponentLink2Description: Datasheet; ComponentLink2URL: http://katalog.we-online.de/pbs/datasheet/744043270.pdf; Published Date: July 2017; Publisher: Wurth Elektronik; Rated Current: 0.89A; Size: 4828; DC Resistance: 170mΩ
footprint WE-TPC_4828
pins: 1, 2

## 744043330
designator L?  value 33uH
WE-TPC SMD Shielded Tiny Power Inductor, size 4828, 0.82A, 195mΩ, 33uH; Part Number: 744043330; ComponentLink1Description: Manufacturer; ComponentLink1URL: http://www.we-online.de; ComponentLink2Description: Datasheet; ComponentLink2URL: http://katalog.we-online.de/pbs/datasheet/744043330.pdf; Published Date: July 2017; Publisher: Wurth Elektronik; Rated Current: 0.82A; Size: 4828; DC Resistance: 195mΩ
footprint WE-TPC_4828
pins: 1, 2

## 744043331
designator L?  value 330uH
WE-TPC SMD Shielded Tiny Power Inductor, size 4828, 0.285A, 1630mΩ, 330uH; Part Number: 744043331; ComponentLink1Description: Manufacturer; ComponentLink1URL: http://www.we-online.de; ComponentLink2Description: Datasheet; ComponentLink2URL: http://katalog.we-online.de/pbs/datasheet/744043331.pdf; Published Date: July 2017; Publisher: Wurth Elektronik; Rated Current: 0.285A; Size: 4828; DC Resistance: 1630mΩ
footprint WE-TPC_4828
pins: 1, 2

## 744043390
designator L?  value 39uH
WE-TPC SMD Shielded Tiny Power Inductor, size 4828, 0.795A, 215mΩ, 39uH; Part Number: 744043390; ComponentLink1Description: Manufacturer; ComponentLink1URL: http://www.we-online.de; ComponentLink2Description: Datasheet; ComponentLink2URL: http://katalog.we-online.de/pbs/datasheet/744043390.pdf; Published Date: July 2017; Publisher: Wurth Elektronik; Rated Current: 0.795A; Size: 4828; DC Resistance: 215mΩ
footprint WE-TPC_4828
pins: 1, 2

## 744043470
designator L?  value 47uH
WE-TPC SMD Shielded Tiny Power Inductor, size 4828, 0.75A, 250mΩ, 47uH; Part Number: 744043470; ComponentLink1Description: Manufacturer; ComponentLink1URL: http://www.we-online.de; ComponentLink2Description: Datasheet; ComponentLink2URL: http://katalog.we-online.de/pbs/datasheet/744043470.pdf; Published Date: July 2017; Publisher: Wurth Elektronik; Rated Current: 0.75A; Size: 4828; DC Resistance: 250mΩ
footprint WE-TPC_4828
pins: 1, 2

## 744043471
designator L?  value 470uH
WE-TPC SMD Shielded Tiny Power Inductor, size 4828, 0.24A, 2128mΩ, 470uH; Part Number: 744043471; ComponentLink1Description: Manufacturer; ComponentLink1URL: http://www.we-online.de; ComponentLink2Description: Datasheet; ComponentLink2URL: http://katalog.we-online.de/pbs/datasheet/744043471.pdf; Published Date: July 2017; Publisher: Wurth Elektronik; Rated Current: 0.24A; Size: 4828; DC Resistance: 2128mΩ
footprint WE-TPC_4828
pins: 1, 2

## 744043561
designator L?  value 560uH
WE-TPC SMD Shielded Tiny Power Inductor, size 4828, 0.22A, 2610mΩ, 560uH; Part Number: 744043561; ComponentLink1Description: Manufacturer; ComponentLink1URL: http://www.we-online.de; ComponentLink2Description: Datasheet; ComponentLink2URL: http://katalog.we-online.de/pbs/datasheet/744043561.pdf; Published Date: July 2017; Publisher: Wurth Elektronik; Rated Current: 0.22A; Size: 4828; DC Resistance: 2610mΩ
footprint WE-TPC_4828
pins: 1, 2

## 744043680
designator L?  value 68uH
WE-TPC SMD Shielded Tiny Power Inductor, size 4828, 0.63A, 340mΩ, 68uH; Part Number: 744043680; ComponentLink1Description: Manufacturer; ComponentLink1URL: http://www.we-online.de; ComponentLink2Description: Datasheet; ComponentLink2URL: http://katalog.we-online.de/pbs/datasheet/744043680.pdf; Published Date: July 2017; Publisher: Wurth Elektronik; Rated Current: 0.63A; Size: 4828; DC Resistance: 340mΩ
footprint WE-TPC_4828
pins: 1, 2

## 7440430012
designator L?  value 1.2uH
WE-TPC SMD Shielded Tiny Power Inductor, size 4828, 3.1A, 17mΩ, 1.2uH; Part Number: 7440430012; ComponentLink1Description: Manufacturer; ComponentLink1URL: http://www.we-online.de; ComponentLink2Description: Datasheet; ComponentLink2URL: http://katalog.we-online.de/pbs/datasheet/7440430012.pdf; Published Date: July 2017; Publisher: Wurth Elektronik; Rated Current: 3.1A; Size: 4828; DC Resistance: 17mΩ
footprint WE-TPC_4828
pins: 1, 2

## 7440430018
designator L?  value 1.8uH
WE-TPC SMD Shielded Tiny Power Inductor, size 4828, 2.7A, 20mΩ, 1.8uH; Part Number: 7440430018; ComponentLink1Description: Manufacturer; ComponentLink1URL: http://www.we-online.de; ComponentLink2Description: Datasheet; ComponentLink2URL: http://katalog.we-online.de/pbs/datasheet/7440430018.pdf; Published Date: July 2017; Publisher: Wurth Elektronik; Rated Current: 2.7A; Size: 4828; DC Resistance: 20mΩ
footprint WE-TPC_4828
pins: 1, 2

## 7440430022
designator L?  value 2.2uH
WE-TPC SMD Shielded Tiny Power Inductor, size 4828, 2.5A, 27mΩ, 2.2uH; Part Number: 7440430022; ComponentLink1Description: Manufacturer; ComponentLink1URL: http://www.we-online.de; ComponentLink2Description: Datasheet; ComponentLink2URL: http://katalog.we-online.de/pbs/datasheet/7440430022.pdf; Published Date: July 2017; Publisher: Wurth Elektronik; Rated Current: 2.5A; Size: 4828; DC Resistance: 27mΩ
footprint WE-TPC_4828
pins: 1, 2

## 7440430027
designator L?  value 2.7uH
WE-TPC SMD Shielded Tiny Power Inductor, size 4828, 2.35A, 25mΩ, 2.7uH; Part Number: 7440430027; ComponentLink1Description: Manufacturer; ComponentLink1URL: http://www.we-online.de; ComponentLink2Description: Datasheet; ComponentLink2URL: http://katalog.we-online.de/pbs/datasheet/7440430027.pdf; Published Date: July 2017; Publisher: Wurth Elektronik; Rated Current: 2.35A; Size: 4828; DC Resistance: 25mΩ
footprint WE-TPC_4828
pins: 1, 2